# Altium schematic symbol library new_lib.SchLib: 50 symbols
Pins are listed as number, name and electrical type; pins without a type are passive.

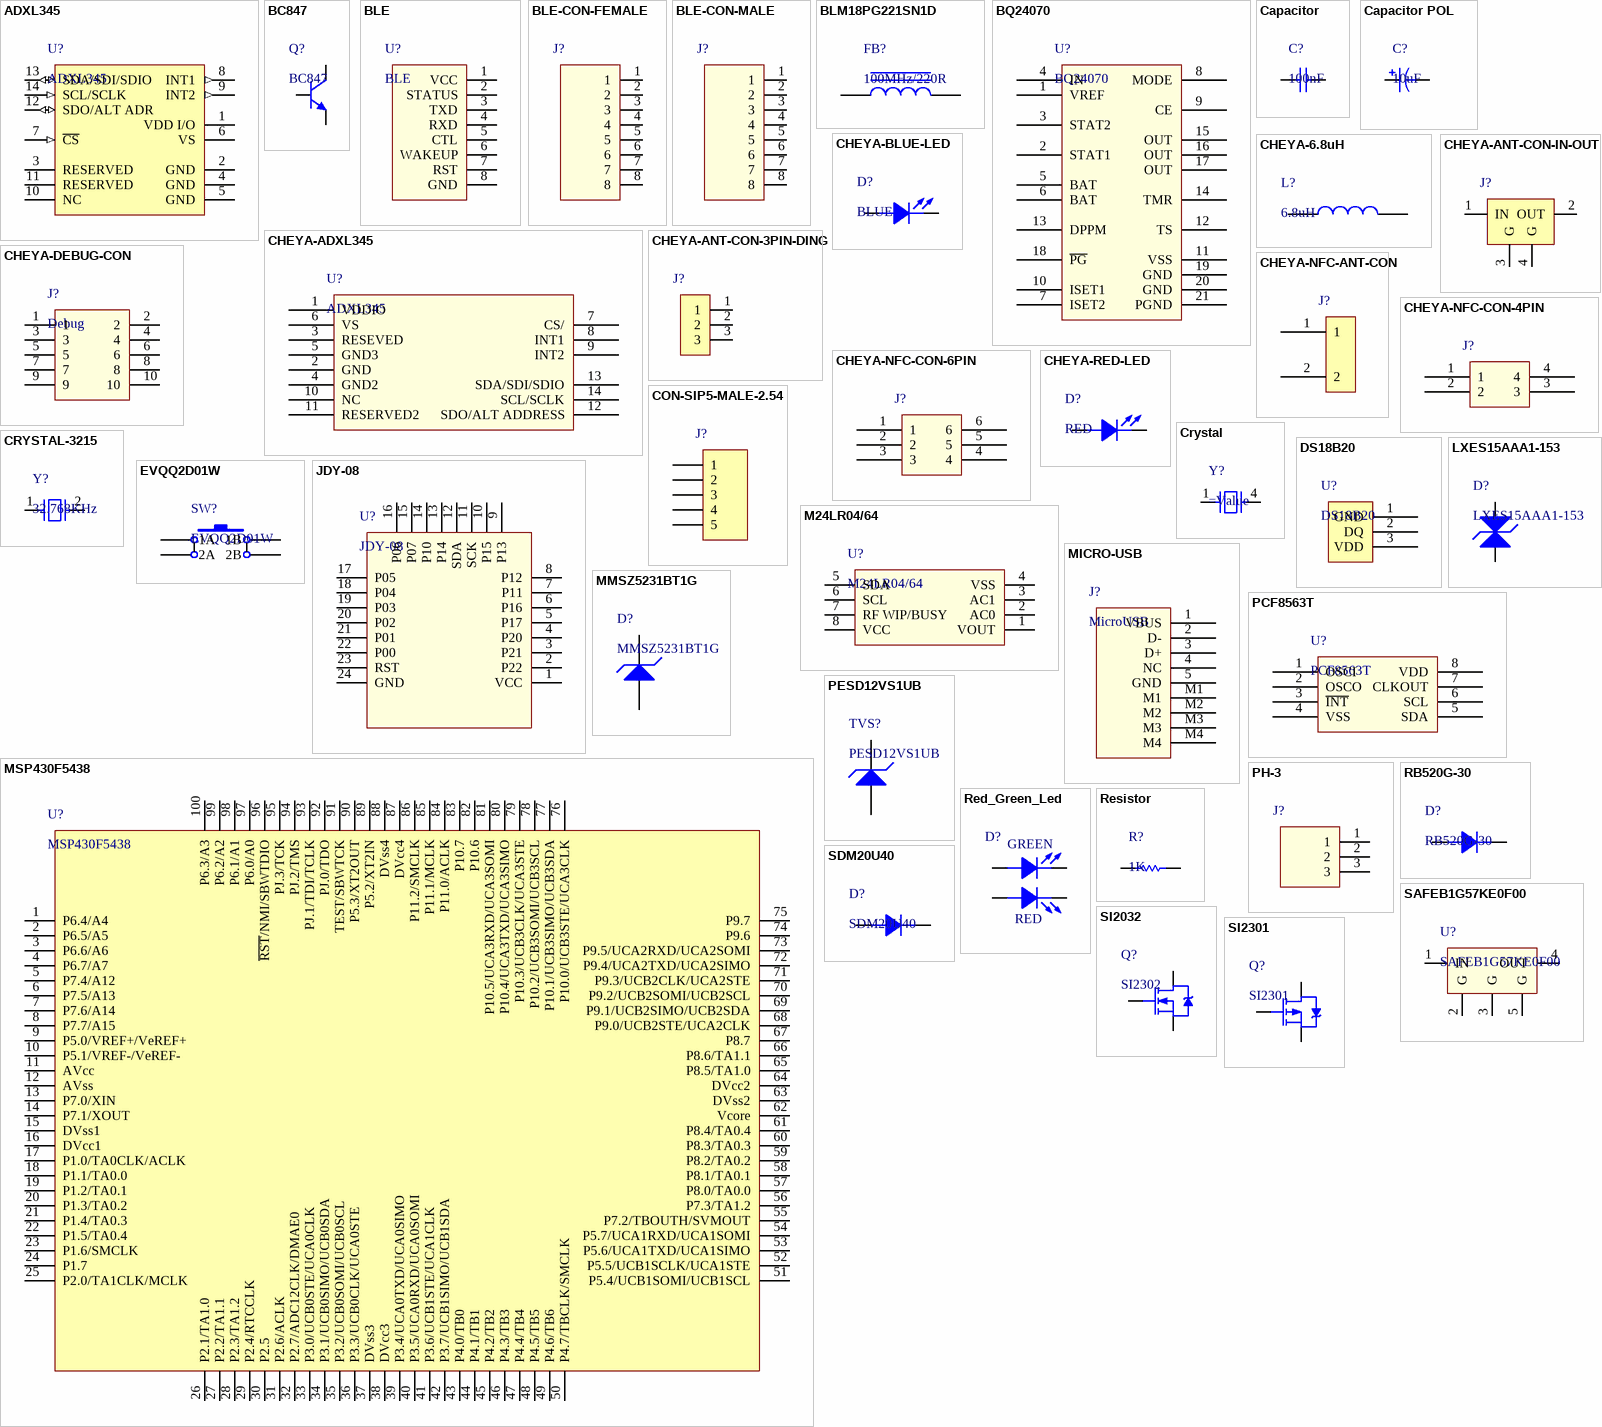
[diagram p0: symbols ADXL345 to SI2301]

## ADXL345
designator U?
三轴加速度传感器; Value: ADXL345
footprint LC-LGA-14_3x5mm
pins: 1 VDD I/O (power), 2 GND (power), 3 RESERVED, 4 GND (power), 5 GND (power), 6 VS (power), 7 ~{CS} (in), 8 INT1 (out), 9 INT2 (out), 10 NC, 11 RESERVED, 12 SDO/ALT ADR (io), 13 SDA/SDI/SDIO (io), 14 SCL/SCLK (in)

## BC847
designator Q?
开关三极管
footprint LC-SOT-23(SOT-23-3)
pins: 1 B, 2 E, 3 C

## BLE
designator U?
蓝牙模块转接板
footprint BLE_SOCKET
pins: 1 VCC (power), 2 STATUS (power), 3 TXD (power), 4 RXD (power), 5 CTL (power), 6 WAKEUP (power), 7 RST (power), 8 GND (power)

## BLE-CON-FEMALE
designator J?  (value not drawn)
蓝牙模块转接座子,直接焊接
footprint BLE-CON-FEMALE
pins: 1, 2, 3, 4, 5, 6, 7, 8

## BLE-CON-MALE
designator J?  (value not drawn)
蓝牙模块转接板,直接焊接
footprint BLE-CON-MALE
pins: 1, 2, 3, 4, 5, 6, 7, 8

## BLM18PG221SN1D
designator FB?, comment 100MHz/220R
贴片磁珠,100MHz/220R
footprint LC-0603_L
footprint LC-0805_L
pins: 1, 2

## BQ24070
designator U?
锂电池充电管理及系统电源路径管理芯片
footprint LC-QFN-20_3.5x4.5x05P
pins: 1 VREF (power), 2 STAT1 (power), 3 STAT2 (power), 4 IN (power), 5 BAT (power), 6 BAT (power), 7 ISET2 (power), 8 MODE (power), 9 CE (power), 10 ISET1 (power), 11 VSS (power), 12 TS (power), 13 DPPM (power), 14 TMR (power), 15 OUT (power), 16 OUT (power), 17 OUT (power), 18 ~{PG} (power), 19 GND (power), 20 GND (power), 21 PGND (power)

## Capacitor
designator C?, comment 100nF
Cap X7R 100nF 16V 10% smd0402; Value: 100nF
footprint LC-0201_C
footprint LC-0402_C
footprint LC-0603_C
footprint LC-0805_C
footprint LC-1206_C
pins: 1, 2

## Capacitor POL
designator C?, comment 10uF
CAP TAN 10uF 16V 10% B3528; Value: 10uF
footprint LC-CASE-A_3216
footprint LC-CASE-B_3528
footprint LC-CASE-C_6032
footprint LC-CASE-D_7343
pins: 1, 2

## CHEYA-6.8uH
designator L?, comment 6.8uH
6.8uH电感,6.8*6.8*4.5
footprint CHEYA-6.8uH
pins: 1, 2

## CHEYA-ADXL345
designator U?, comment ADXL345
三轴加速度传感器
footprint LC-LGA-14_3x5mm
pins: 1 VDDIO (power), 2 GND (power), 3 RESEVED (power), 4 GND2 (power), 5 GND3 (power), 6 VS (power), 7 CS/ (power), 8 INT1 (power), 9 INT2 (power), 10 NC (power), 11 RESERVED2 (power), 12 SDO/ALT ADDRESS (power), 13 SDA/SDI/SDIO (power), 14 SCL/SCLK (power)

## CHEYA-ANT-CON-3PIN-DING
designator J?  (value not drawn)
车押天线顶针连接器
footprint CHEYA-ANT-CON-3PIN-DING
pins: 1 (power), 2 (power), 3 (power)

## CHEYA-ANT-CON-IN-OUT
designator J?  (value not drawn)
天线连接器，带输入输出
footprint MM8430-2610
pins: 1 IN (power), 2 OUT (power), 3 G (power), 4 G (power)

## CHEYA-BLUE-LED
designator D?, comment BLUE
蓝色led,19-217/BHC-ZL1M2RY/3T,0603
footprint CHEYA-LED-0603
pins: 1 ANODE, 2 CATHODE

## CHEYA-DEBUG-CON
designator J?, comment Debug
1.27*1.27 Female,10Pin,Dual Row
footprint CHEYA-DEBUG-CON
pins: 1 (power), 2 (power), 3 (power), 4 (power), 5 (power), 6 (power), 7 (power), 8 (power), 9 (power), 10 (power)

## CHEYA-NFC-ANT-CON
designator J?  (value not drawn)
车押NFC天线顶针
footprint CHEYA-RFID-CON
pins: 1 (power), 2 (power)

## CHEYA-NFC-CON-4PIN
designator J?, comment 车押NFC连接器  (value not drawn)
车押NFC连接器,4PIN,用于固定
footprint CHEYA-NFC-CON-SMT-DIP4
pins: 1 (power), 2 (power), 3 (power), 4 (power)

## CHEYA-NFC-CON-6PIN
designator J?  (value not drawn)
车押NFC连接器,6PIN
footprint CHEYA-NFC-CON-SMT-DIP6
pins: 1 (power), 2 (power), 3 (power), 4 (power), 5 (power), 6 (power)

## CHEYA-RED-LED
designator D?, comment RED
红色led,19-217/R6C-AL1M2VY/3T,0603
footprint CHEYA-LED-0603
pins: 1 ANODE, 2 CATHODE

## CON-SIP5-MALE-2.54
designator J?
2.54mm间距,公头,排针
footprint CON-SIP-MALE-2.54
pins: 1, 2, 3, 4, 5

## Crystal
designator Y?
Crys 32.768kHz +/-20ppm MC-306; Vaule: 32.768kHz
footprint SU_MC306
pins: 1, 4

## CRYSTAL-3215
designator Y?, comment 32.768KHz
32.768KHz晶振,NX3215
footprint CHEYA-NX3215
pins: 1, 2

## DS18B20
designator U?
单线数字温度传感器; Value: DS18B20
footprint LC-TO-92(TO-92-3)
pins: 1 GND (power), 2 DQ (power), 3 VDD (power)

## EVQQ2D01W
designator SW?
四脚轻触按键
footprint CHEYA-SWITCH
pins: 1A, 1B, 2A, 2B

## JDY-08
designator U?
蓝牙4.0模块
footprint JDY-08
pins: 1 VCC (power), 2 P22 (power), 3 P21 (power), 4 P20 (power), 5 P17 (power), 6 P16 (power), 7 P11 (power), 8 P12 (power), 9 P13 (power), 10 P15 (power), 11 SCK (power), 12 SDA (power), 13 P14 (power), 14 P10 (power), 15 P07 (power), 16 P06 (power), 17 P05 (power), 18 P04 (power), 19 P03 (power), 20 P02 (power), 21 P01 (power), 22 P00 (power), 23 RST (power), 24 GND (power)

## LXES15AAA1-153
designator D?
双端TVS抑制二极管
footprint LC-0402_L
pins: 1 A, 2 K

## M24LR04/64
designator U?
双接口i2c存储芯片,NFC
footprint LC-SOIC-8_150mil
pins: 1 VOUT, 2 AC0, 3 AC1, 4 VSS, 5 SDA, 6 SCL, 7 RF WIP/BUSY, 8 VCC

## MICRO-USB
designator J?, comment MicroUSB
MicroUSB接口，5pin，带直插的固定焊盘
footprint CHEYA-USB-Micro-5Pin
pins: 1 VBUS (power), 2 D- (power), 3 D+ (power), 4 NC (power), 5 GND (power), M1 (power), M2 (power), M3 (power), M4 (power)

## MMSZ5231BT1G
designator D?
稳压二极管 5.1V 500mW SOD-123
footprint LC-SOD-123
pins: 1 A, 2 K

## MSP430F5438
designator U?
16位低功耗MCU
footprint LC-TQFP-100_14x14x05P
pins: 1 P6.4/A4, 2 P6.5/A5, 3 P6.6/A6, 4 P6.7/A7, 5 P7.4/A12, 6 P7.5/A13, 7 P7.6/A14, 8 P7.7/A15, 9 P5.0/VREF+/VeREF+, 10 P5.1/VREF-/VeREF-, 11 AVcc, 12 AVss, 13 P7.0/XIN, 14 P7.1/XOUT, 15 DVss1, 16 DVcc1, 17 P1.0/TA0CLK/ACLK, 18 P1.1/TA0.0, 19 P1.2/TA0.1, 20 P1.3/TA0.2, 21 P1.4/TA0.3, 22 P1.5/TA0.4, 23 P1.6/SMCLK, 24 P1.7, 25 P2.0/TA1CLK/MCLK, 26 P2.1/TA1.0, 27 P2.2/TA1.1, 28 P2.3/TA1.2, 29 P2.4/RTCCLK, 30 P2.5, 31 P2.6/ACLK, 32 P2.7/ADC12CLK/DMAE0, 33 P3.0/UCB0STE/UCA0CLK, 34 P3.1/UCB0SIMO/UCB0SDA, 35 P3.2/UCB0SOMI/UCB0SCL, 36 P3.3/UCB0CLK/UCA0STE, 37 DVss3, 38 DVcc3, 39 P3.4/UCA0TXD/UCA0SIMO, 40 P3.5/UCA0RXD/UCA0SOMI, 41 P3.6/UCB1STE/UCA1CLK, 42 P3.7/UCB1SIMO/UCB1SDA, 43 P4.0/TB0, 44 P4.1/TB1, 45 P4.2/TB2, 46 P4.3/TB3, 47 P4.4/TB4, 48 P4.5/TB5, 49 P4.6/TB6, 50 P4.7/TBCLK/SMCLK, 51 P5.4/UCB1SOMI/UCB1SCL, 52 P5.5/UCB1SCLK/UCA1STE, 53 P5.6/UCA1TXD/UCA1SIMO, 54 P5.7/UCA1RXD/UCA1SOMI, 55 P7.2/TBOUTH/SVMOUT, 56 P7.3/TA1.2, 57 P8.0/TA0.0, 58 P8.1/TA0.1, 59 P8.2/TA0.2, 60 P8.3/TA0.3, 61 P8.4/TA0.4, 62 Vcore, 63 DVss2, 64 DVcc2, 65 P8.5/TA1.0, 66 P8.6/TA1.1, 67 P8.7, 68 P9.0/UCB2STE/UCA2CLK, 69 P9.1/UCB2SIMO/UCB2SDA, 70 P9.2/UCB2SOMI/UCB2SCL, 71 P9.3/UCB2CLK/UCA2STE, 72 P9.4/UCA2TXD/UCA2SIMO, 73 P9.5/UCA2RXD/UCA2SOMI, 74 P9.6, 75 P9.7, 76 P10.0/UCB3STE/UCA3CLK, 77 P10.1/UCB3SIMO/UCB3SDA, 78 P10.2/UCB3SOMI/UCB3SCL, 79 P10.3/UCB3CLK/UCA3STE, 80 P10.4/UCA3TXD/UCA3SIMO, 81 P10.5/UCA3RXD/UCA3SOMI, 82 P10.6, 83 P10.7, 84 P11.0/ACLK, 85 P11.1/MCLK, 86 P11.2/SMCLK, 87 DVcc4, 88 DVss4, 89 P5.2/XT2IN, 90 P5.3/XT2OUT, 91 TEST/SBWTCK, 92 PJ.0/TDO, 93 PJ.1/TDI/TCLK, 94 PJ.2/TMS, 95 PJ.3/TCK, 96 ~{RST}/NMI/SBWTDIO, 97 P6.0/A0, 98 P6.1/A1, 99 P6.2/A2, 100 P6.3/A3

## PCF8563T
designator U?
时钟芯片，i2c接口，带中断和时钟输出
footprint LC-SOIC-8_150mil
pins: 1 OSCI (power), 2 OSCO (power), 3 ~{INT} (power), 4 VSS (power), 5 SDA (power), 6 SCL (power), 7 CLKOUT (power), 8 VDD (power)

## PESD12VS1UB
designator TVS?
单极性ESD保护二极管
footprint LC-SOD-523
pins: 1 K, 2 A

## PH-3
designator J?  (value not drawn)
PH-3,2.0MM间距,3PIN,FEMALE
footprint PH-3
pins: 1 (power), 2 (power), 3 (power)

## RB520G-30
designator D?
肖特基二极管
footprint LC-SOD-723
pins: 1 ANODE, 2 CATHODE

## Red_Green_Led
designator D?  (value not drawn)
红绿双色led
footprint Red_Green_Led
pins: 1 ANODE, 2 ANODE, 3 CATHODE, 4 CATHODE
text: GREEN; RED

## Resistor
designator R?, comment 1K
Res 1K 1% 1/16W smd0402; Value: 1K
footprint LC-0201_R
footprint LC-0402_R
footprint LC-0603_R
footprint LC-0805_R
footprint LC-1206_R
footprint LC-1210_R
footprint LC-1806_R
footprint LC-1808_R
footprint LC-1812_R
footprint LC-1825_R
pins: 1, 2

## SAFEB1G57KE0F00
designator U?
GPS SAW滤波器
footprint SAFEB1G57KE0F00
pins: 1 IN (power), 2 G (power), 3 G (power), 4 OUT (power), 5 G (power)

## SDM20U40
designator D?
肖特基二极管
footprint LC-SOD-523
pins: 1 CATHODE, 2 ANODE

## SI2032
designator Q?, comment SI2302
N Channel MOS Vgs = 4.5V Rds = 57mΩ
footprint LC-SOT-23(SOT-23-3)
pins: 1 G, 2 S, 3 D

## SI2301
designator Q?
P Channnel MOS Vgs = -4.5V Rds = 120mΩ
footprint LC-SOT-23(SOT-23-3)
pins: 1 G, 2 S, 3 D

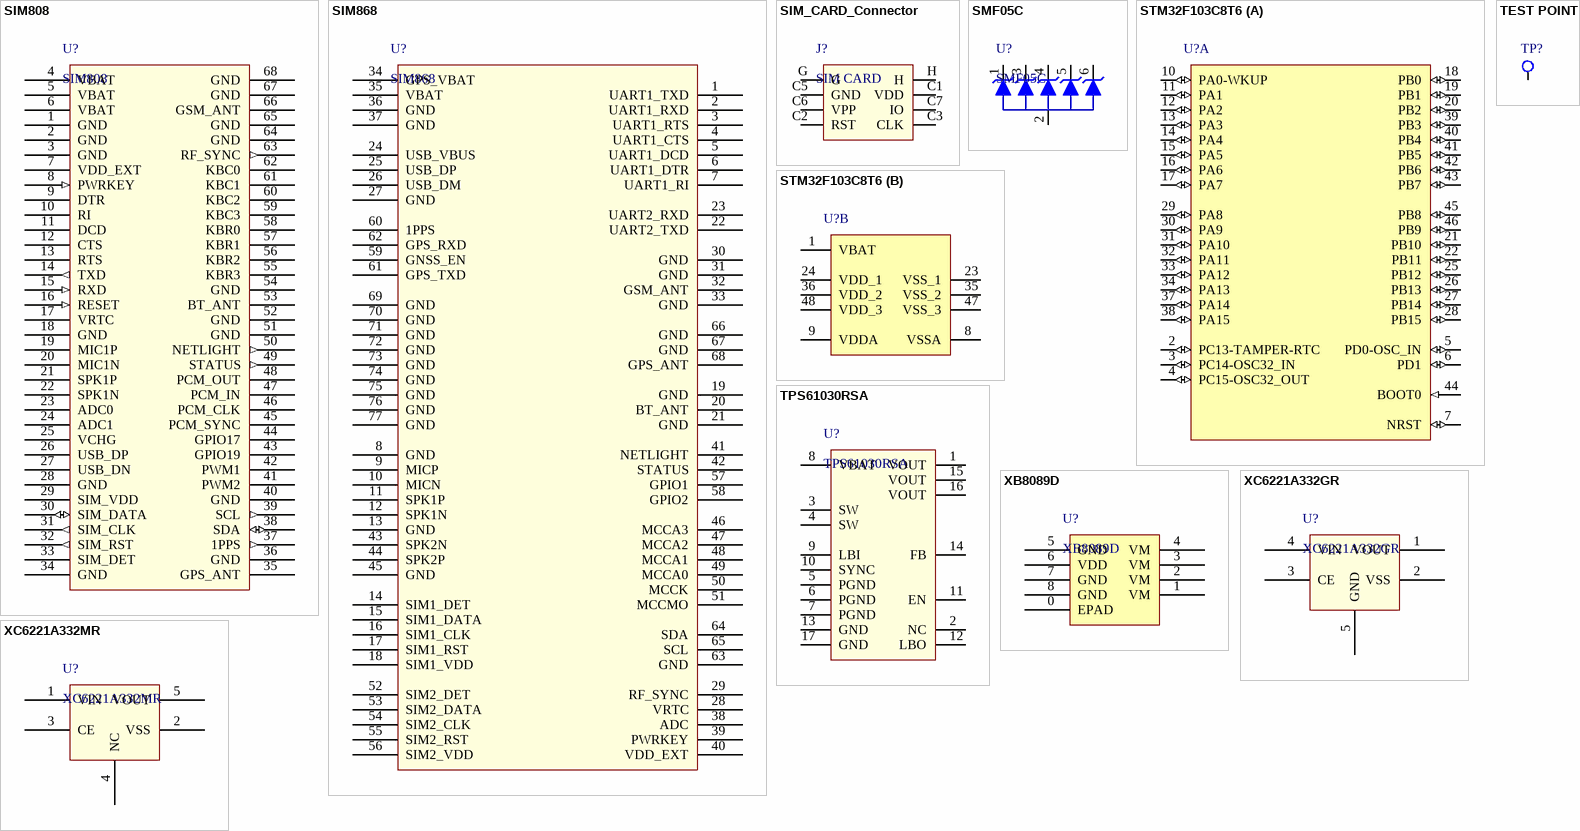
[diagram p1: symbols SIM808 to XC6221A332MR]

## SIM808
designator U?
2G GPRS/GPS模块
footprint SIM808
pins: 1 GND (power), 2 GND (power), 3 GND (power), 4 VBAT (power), 5 VBAT (power), 6 VBAT (power), 7 VDD_EXT (power), 8 PWRKEY (in), 9 DTR (power), 10 RI (power), 11 DCD (power), 12 CTS (power), 13 RTS (power), 14 TXD (out), 15 RXD (in), 16 RESET (in), 17 VRTC (power), 18 GND (power), 19 MIC1P (power), 20 MIC1N (power), 21 SPK1P (power), 22 SPK1N (power), 23 ADC0 (power), 24 ADC1 (power), 25 VCHG (power), 26 USB_DP (power), 27 USB_DN (power), 28 GND (power), 29 SIM_VDD (power), 30 SIM_DATA (io), 31 SIM_CLK (out), 32 SIM_RST (out), 33 SIM_DET, 34 GND (power), 35 GPS_ANT (power), 36 GND (power), 37 1PPS (out), 38 SDA (io), 39 SCL (out), 40 GND (power), 41 PWM2 (power), 42 PWM1 (power), 43 GPIO19 (power), 44 GPIO17 (power), 45 PCM_SYNC (power), 46 PCM_CLK (power), 47 PCM_IN (power), 48 PCM_OUT (power), 49 STATUS (out), 50 NETLIGHT (out), 51 GND (power), 52 GND (power), 53 BT_ANT (power), 54 GND (power), 55 KBR3 (power), 56 KBR2 (power), 57 KBR1 (power), 58 KBR0 (power), 59 KBC3 (power), 60 KBC2 (power), 61 KBC1 (power), 62 KBC0 (power), 63 RF_SYNC (out), 64 GND (power), 65 GND (power), 66 GSM_ANT (power), 67 GND (power), 68 GND (power)

## SIM868
designator U?
2G GPS/GPRS模块,双串口
footprint SIM868
pins: 1 UART1_TXD, 2 UART1_RXD, 3 UART1_RTS, 4 UART1_CTS, 5 UART1_DCD, 6 UART1_DTR, 7 UART1_RI, 8 GND, 9 MICP, 10 MICN, 11 SPK1P, 12 SPK1N, 13 GND, 14 SIM1_DET, 15 SIM1_DATA, 16 SIM1_CLK, 17 SIM1_RST, 18 SIM1_VDD, 19 GND, 20 BT_ANT, 21 GND, 22 UART2_TXD, 23 UART2_RXD, 24 USB_VBUS, 25 USB_DP, 26 USB_DM, 27 GND, 28 VRTC, 29 RF_SYNC, 30 GND, 31 GND, 32 GSM_ANT, 33 GND, 34 GPS_VBAT, 35 VBAT, 36 GND, 37 GND, 38 ADC, 39 PWRKEY, 40 VDD_EXT, 41 NETLIGHT, 42 STATUS, 43 SPK2N, 44 SPK2P, 45 GND, 46 MCCA3, 47 MCCA2, 48 MCCA1, 49 MCCA0, 50 MCCK, 51 MCCMO, 52 SIM2_DET, 53 SIM2_DATA, 54 SIM2_CLK, 55 SIM2_RST, 56 SIM2_VDD, 57 GPIO1, 58 GPIO2, 59 GNSS_EN, 60 1PPS, 61 GPS_TXD, 62 GPS_RXD, 63 GND, 64 SDA, 65 SCL, 66 GND, 67 GND, 68 GPS_ANT, 69 GND, 70 GND, 71 GND, 72 GND, 73 GND, 74 GND, 75 GND, 76 GND, 77 GND

## SIM_CARD_Connector
designator J?, comment SIM CARD
Micro SIM卡座，6pin
footprint CON-Micro-SIM-6pin
pins: C1 VDD, C2 RST, C3 CLK, C5 GND, C6 VPP, C7 IO, G, H

## SMF05C
designator U?
TVS阵列，5个TVS管，ESD保护器件
footprint LC-SC-70-6(SOT-363)
pins: 1 K, 2 A, 3 K, 4 K, 5 K, 6 K

## STM32F103C8T6
designator U?
STM32 ARM-based 32-bit MCU Performance Line with 64 kB Flash, 20 kB Internal RAM, -40 to +85℃ Temperature, 48-Pin LQFP, Tray; DatasheetVersion: rev13.0, Apr-2011; PackageVersion: rev13, Apr-2011; PackageReference: LQFP48; PackageDescription: 48-Pin Low-Profile Quad Flat Pack, 7 x 7 mm Body, 0.5 mm Pitch (LQFP48); ComponentLink1Description: Manufacturer URL; ComponentLink1URL: http://www.st.com/; ComponentLink2Description: STM32F103 Datasheet; ComponentLink2URL: http://www.st.com/internet/com/TECHNICAL_RESOURCES/TECHNICAL_LITERATURE/DATASHEET/CD00161566.pdf; ComponentLink3Description: STM32 Family Web Page; ComponentLink3URL: www.st.com/stm32
footprint LC-LQFP-48_7x7x05P
part A pins: 2 PC13-TAMPER-RTC (io), 3 PC14-OSC32_IN (io), 4 PC15-OSC32_OUT (io), 5 PD0-OSC_IN (io), 6 PD1 (io), 7 NRST (io), 10 PA0-WKUP (io), 11 PA1 (io), 12 PA2 (io), 13 PA3 (io), 14 PA4 (io), 15 PA5 (io), 16 PA6 (io), 17 PA7 (io), 18 PB0 (io), 19 PB1 (io), 20 PB2 (io), 21 PB10 (io), 22 PB11 (io), 25 PB12 (io), 26 PB13 (io), 27 PB14 (io), 28 PB15 (io), 29 PA8 (io), 30 PA9 (io), 31 PA10 (io), 32 PA11 (io), 33 PA12 (io), 34 PA13 (io), 37 PA14 (io), 38 PA15 (io), 39 PB3 (io), 40 PB4 (io), 41 PB5 (io), 42 PB6 (io), 43 PB7 (io), 44 BOOT0 (in), 45 PB8 (io), 46 PB9 (io)
part B pins: 1 VBAT (power), 8 VSSA (power), 9 VDDA (power), 23 VSS_1 (power), 24 VDD_1 (power), 35 VSS_2 (power), 36 VDD_2 (power), 47 VSS_3 (power), 48 VDD_3 (power)

## TEST POINT
designator TP?  (value not drawn)
footprint ICT45
pins: 1

## TPS61030RSA
designator U?
boost升压
footprint CHEYA-S-PVQFN-N16
pins: 1 VOUT, 2 NC, 3 SW, 4 SW, 5 PGND, 6 PGND, 7 PGND, 8 VBAT, 9 LBI, 10 SYNC, 11 EN, 12 LBO, 13 GND, 14 FB, 15 VOUT, 16 VOUT, 17 GND

## XB8089D
designator U?
锂电池充放电保护芯片，过充电压4.25V，过放电压2.5V,过流保护电流值10A,导通电阻20mΩ; Value: XB8089D
footprint LC-SOP-8_EP_150mil
pins: 0 EPAD (power), 1 VM (power), 2 VM (power), 3 VM (power), 4 VM (power), 5 GND (power), 6 VDD (power), 7 GND (power), 8 GND (power)

## XC6221A332GR
designator U?
带有输出使能控制的LDO,3.3V,USP-4
footprint CHEYA-USP-4
pins: 1 VOUT (power), 2 VSS (power), 3 CE (power), 4 VIN (power), 5 GND (power)

## XC6221A332MR
designator U?
带有输出使能控制引脚的LDO,SOT-23-5
footprint LC-SOT-23-5
pins: 1 VIN (power), 2 VSS (power), 3 CE (power), 4 NC (power), 5 VOUT (power)